# Altium footprint library BLE_THERMISTOR.PcbLib: 24 footprints (part 1 of 2)
Each footprint in its own frame and in the unit in brackets; x right, y up, seen from the top. Pads: shape width x height; smd on the part's side, far side on the other; paste and mask are expansions set on the pad; w line width, h text height; cw(c..) or ccw(c..) is an arc to the next point about the centre after c.
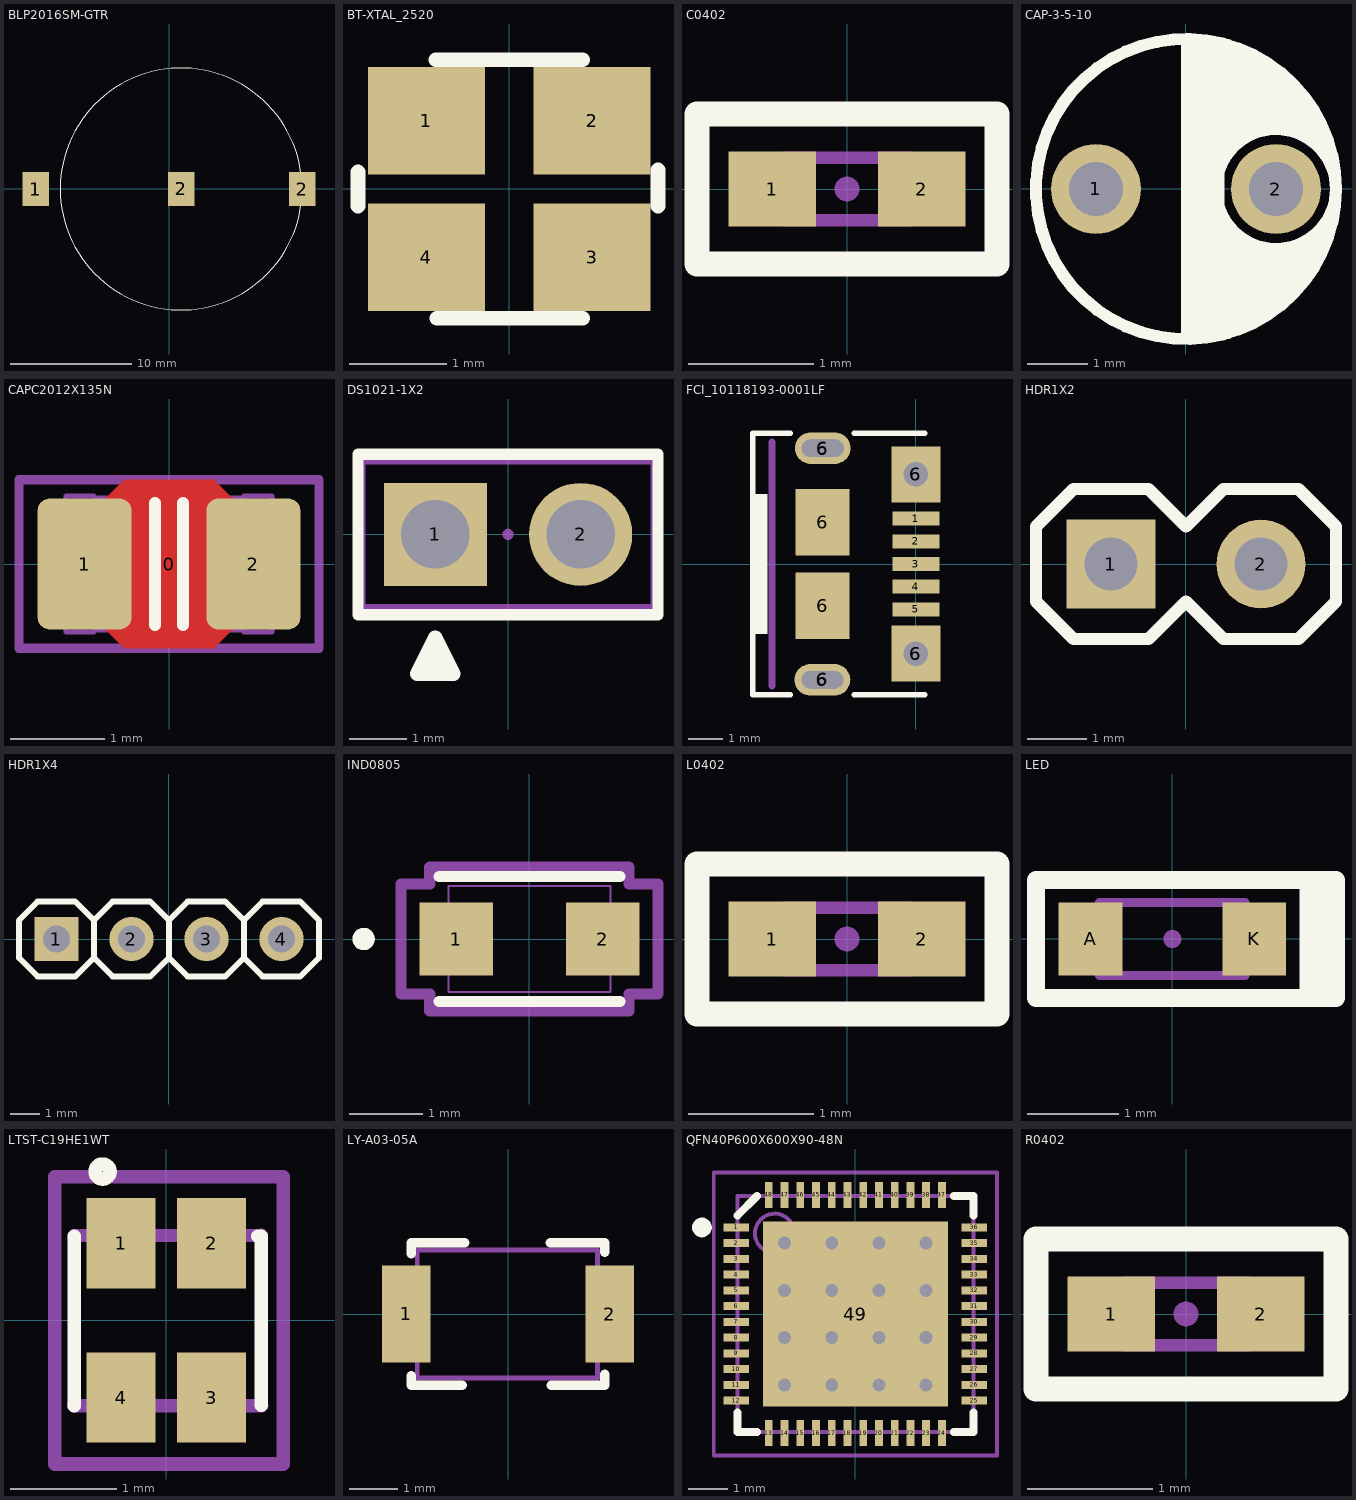
[diagram p0: the footprints below, top view; thin cyan lines are the x and y axes]

## BLP2016SM-GTR [mm]
height 1.2
pads (3):
  rect 2.2x2.8 smd mask+0.05: 1(-11,0) 2(1,0) 2(11,0)
Top Overlay:
  circle w0.1: c1,0 r10

## BT-XTAL_2520 [mm]
pads (4):
  rect 1.2x1.1 smd paste+0 mask+0.05: 1(-0.85,0.7) 2(0.85,0.7) 3(0.85,-0.7) 4(-0.85,-0.7)
Top Overlay:
  lines w0.152: -1.55,-0.175 -1.55,0.175 ; -0.75,1.325 0.75,1.325 ; -0.74,-1.325 0.75,-1.325 ; 1.525,-0.175 1.525,0.195
3D body "User Library-GeyerElectronics_KX6.step": height 0.56, standoff 0, extent -1.25,-1 1.27,1

## C0402 [mm]
pads (3):
  rect 0.7x0.6 smd paste+0 mask+0.05: 1(-0.6,0) 2(0.6,0)
  round 0.2 on Mech4 paste-10 mask-10: ""(0,0)
Top Overlay:
  lines w0.2: -1.2,-0.6 1.2,-0.6 1.2,0.6 -1.2,0.6 -1.2,-0.6
Mechanical 4:
  lines w0.1: -0.5,-0.25 0.5,-0.25 0.5,0.25 -0.5,0.25 -0.5,-0.25
3D body "C1005.STEP": height 0.5, standoff 0, extent -0.5,-0.25 0.5,0.25

## CAP-3-5-10 [mm] "Capacitor; 2 Leads"
height 10
pads (2):
  round 1.5 hole 0.9 paste-10 mask+0.05: 1(-1.5,0) 2(1.5,0)
Top Overlay:
  circle w0.2: c0,0 r2.5
  circle w0.2: c1.5,0 r1
  lines w0.2: 0.02,-2.48 0.02,2.5 ; 0.16,-2.39 0.16,2.46 ; 0.35,-2.35 0.35,2.46 ; 0.54,-2.42 0.54,2.4 ; 0.7,-2.4 0.7,-0.68 ; 0.7,0.68 0.7,2.4 ; 0.84,-2.32 0.84,-0.84 ; 0.84,0.84 0.84,2.32 ; 0.97,-2.23 0.97,-0.98 ; 0.97,0.98 0.97,2.23 ; 1.12,-2.13 1.12,-1.02 ; 1.12,1.02 1.12,2.13 ; 1.27,-2.06 1.27,-1.09 ; 1.27,1.09 1.27,2.06 ; 1.41,-1.97 1.41,-1.04 ; 1.41,1.04 1.41,1.97 ; 1.57,-1.85 1.57,-1.14 ; 1.57,1.14 1.57,1.85 ; 1.74,-1.71 1.74,-1.07 ; 1.74,1.07 1.74,1.71 ; 1.88,-1.49 1.88,-0.98 ; 1.88,0.98 1.88,1.49 ; 2.04,-1.32 2.04,-0.95 ; 2.04,0.95 2.04,1.32 ; 2.18,-1.07 2.18,-0.8 ; 2.18,0.8 2.18,1.07
3D body "8x12.5mm.STEP": height 0.8, standoff -13.5, extent -4,-4 4,4

## CAPC2012X135N [mm] "Chip Capacitor, Body 2.0x1.2mm, EIA 0805, IPC Medium Density"
height 1.35
pads (3):
  round 0.254 on Mech15: 0(0,0)
  rrect25% 1x1.4 smd: 1(-0.9,0) 2(0.9,0)
Top Layer:
  pour cut-out: -0.675,0.7 -0.475,0.9 0.475,0.9 0.675,0.7 0.675,-0.7 0.475,-0.9 -0.475,-0.9 -0.675,-0.7
Top Overlay:
  lines w0.127: -0.15,-0.651 -0.15,0.651 ; 0.15,-0.651 0.15,0.651
Mechanical 13:
  lines w0.05: -0.8,-0.705 0.8,-0.705 ; -0.8,0.705 0.8,0.705 ; -1.1,-0.725 -0.8,-0.725 -0.8,0.725 -1.1,0.725 -1.1,-0.725 ; 0.8,-0.725 0.8,0.725 1.1,0.725 1.1,-0.725 0.8,-0.725
Mechanical 15:
  lines w0.1: -1.6,-0.9 1.6,-0.9 1.6,0.9 -1.6,0.9 -1.6,-0.9
3D body "CAP_0805.STEP": height 1.34, standoff -0.01, extent -1.1,-0.725 1.1,0.725

## DS1021-1X2 [mm]
pads (3):
  rect 1.8x1.8 hole 1.2 paste-10 mask+0.05: 1(-1.27,0)
  round 1.8 hole 1.2 paste-10 mask+0.05: 2(1.27,0)
  round 0.2 on Mech4 paste-10 mask-10: ""(0,0)
Top Overlay:
  lines w0.2: -2.62,-1.4 2.62,-1.4 2.62,1.4 -2.62,1.4 -2.62,-1.4
  lines w0.25: -1.27,-2.435 -1.27,-1.8 ; -1.27,-1.8 -1.587,-2.435 -0.953,-2.435 -1.27,-1.8
Mechanical 4:
  lines w0.1: -2.54,-1.27 -2.54,1.27 2.54,1.27 2.54,-1.27 -2.54,-1.27

## FCI_10118193-0001LF [mm]
pads (15):
  rect 1.35x0.4 smd: 1(0,1.3) 2(0,0.65) 3(0,0) 4(0,-0.65) 5(0,-1.3)
  oval 1.6x0.9 hole 0.5 slot 1.2 at 0 deg: 6(-2.68,-3.32) 6(-2.67,3.32)
  oval 2x1.5 on Top Paste: 6(-2.675,-3.3) 6(-2.675,3.3)
  rect 1.55x1.9 smd: 6(-2.675,-1.2) 6(-2.675,1.2)
  rect 1.4x1.6 smd: 6(0,-2.57) 6(0,2.57)
  round 1 hole 0.7: 6(0,-2.57)
  round 1.2 hole 0.7: 6(0,2.57)
Top Overlay:
  rectangle: -4.75,-2 -4.25,2
  lines w0.152: -3.6,-3.75 -4.675,-3.75 -4.675,3.75 -3.6,3.75 ; -1.775,-3.75 0.25,-3.75 ; -1.775,3.75 0.25,3.75 ; 0.475,-3.12 0.475,-2.645 ; 0.475,2.645 0.475,3.12
Mechanical 15:
  lines w0.2: -4.125,-3.5 -4.125,3.5
3D body "User Library-MicroUSB-B_Molex_105017-0001.step": height 2.72, standoff -0.59, extent -5.28,-4.1 0.15,4.1

## HDR1X2 [mm] "1X13"
pads (2):
  rect 1.5x1.5 hole 0.9: 1(-1.27,0)
  round 1.5 hole 0.9: 2(1.27,0)
Top Overlay:
  lines w0.203: -2.54,-0.635 -1.905,-1.27 -0.635,-1.27 0,-0.635 0.635,-1.27 1.905,-1.27 2.54,-0.635 2.54,0.635 1.905,1.27 0.635,1.27 0,0.635 -0.635,1.27 -1.905,1.27 -2.54,0.635 -2.54,-0.635
Mechanical 4:
  circle w0.1: c1.27,0 r0.32
  circle w0.1: c-1.27,0 r0.32
  lines w0.1: -2.54,-0.635 -2.54,0.635 -1.905,1.27 -0.635,1.27 0,0.635 0.635,1.27 1.905,1.27 2.54,0.635 2.54,-0.635 1.905,-1.27 0.635,-1.27 0,-0.635 -0.635,-1.27 -1.905,-1.27 -2.54,-0.635
3D body: height 8.6, standoff -0.5, extent 0.92,-0.35 1.62,0.35
3D body: height 8.6, standoff -0.5, extent -1.62,-0.35 -0.92,0.35
3D body: height 3, standoff 0, extent -2.54,-1.27 2.54,1.27

## HDR1X4 [mm] "1X13"
pads (4):
  rect 1.5x1.5 hole 0.9: 1(-3.81,0)
  round 1.5 hole 0.9: 2(-1.27,0) 3(1.27,0) 4(3.81,0)
Top Overlay:
  lines w0.203: -2.54,-0.635 -3.175,-1.27 -4.445,-1.27 -5.08,-0.635 -5.08,0.635 -4.445,1.27 -3.175,1.27 -2.54,0.635 ; -2.54,-0.635 -1.905,-1.27 -0.635,-1.27 0,-0.635 ; -2.54,-0.635 -2.54,0.635 ; -2.54,0.635 -1.905,1.27 -0.635,1.27 0,0.635 ; 0,-0.635 0,0.635 ; 0,-0.635 0.635,-1.27 1.905,-1.27 2.54,-0.635 ; 0,0.635 0.635,1.27 1.905,1.27 2.54,0.635 ; 2.54,-0.635 3.175,-1.27 4.445,-1.27 5.08,-0.635 5.08,0.635 4.445,1.27 3.175,1.27 2.54,0.635 ; 2.54,-0.635 2.54,0.635
Mechanical 4:
  circle w0.1: c-3.81,0 r0.32
  circle w0.1: c-1.27,0 r0.32
  circle w0.1: c3.81,0 r0.32
  circle w0.1: c1.27,0 r0.32
  lines w0.1: 0,-0.635 -0.635,-1.27 -1.905,-1.27 -2.54,-0.635 -3.175,-1.27 -4.445,-1.27 -5.08,-0.635 -5.08,0.635 -4.445,1.27 -3.175,1.27 -2.54,0.635 -1.905,1.27 -0.635,1.27 0,0.635 ; 0,-0.635 0,0.635 ; 0,-0.635 0,0.635 ; 0,-0.635 0.635,-1.27 1.905,-1.27 2.54,-0.635 ; 0,0.635 0.635,1.27 1.905,1.27 2.54,0.635 ; 2.54,-0.635 3.175,-1.27 4.445,-1.27 5.08,-0.635 5.08,0.635 4.445,1.27 3.175,1.27 2.54,0.635 ; 2.54,-0.635 2.54,0.635
3D body: height 3, standoff 0, extent -5.08,-1.27 0,1.27
3D body: height 8.6, standoff -0.5, extent -4.16,-0.35 -3.46,0.35
3D body: height 8.6, standoff -0.5, extent -1.62,-0.35 -0.92,0.35
3D body: height 8.6, standoff -0.5, extent 3.46,-0.35 4.16,0.35
3D body: height 8.6, standoff -0.5, extent 0.92,-0.35 1.62,0.35
3D body: height 3, standoff 0, extent 0,-1.27 5.08,1.27

## IND0805 [mil]
pads (2):
  rect 39.5x39 smd paste+0 mask+0: 1(-39.25,0) 2(39.25,0)
Top Overlay:
  circle w6: c-89,0 r3
  lines w6: -48.5,-33.5 48.5,-33.5 ; -48.5,33.5 48.5,33.5
Mechanical 13:
  circle w0: c-40.5,0 r3
  lines w1: -43.5,-28.5 43.5,-28.5 43.5,28.5 -43.5,28.5 -43.5,-28.5
Mechanical 15:
  lines w6: -69,-29.5 -69,29.5 -53.5,29.5 -53.5,38.5 53.5,38.5 53.5,29.5 69,29.5 69,-29.5 53.5,-29.5 53.5,-38.5 -53.5,-38.5 -53.5,-29.5 -69,-29.5
3D body: height 10, standoff 0, extent 0,0 10,10
3D body "IND_BOURNS_CE201210_A.step": height 32.99, standoff 0, extent -43.5,-28.58 43.51,28.59

## L0402 [mm]
pads (3):
  rect 0.7x0.6 smd paste+0 mask+0.05: 1(-0.6,0) 2(0.6,0)
  round 0.2 on Mech4 paste-10 mask-10: ""(0,0)
Top Overlay:
  lines w0.2: -1.2,-0.6 -1.2,0.6 1.2,0.6 1.2,-0.6 -1.2,-0.6
Mechanical 4:
  lines w0.1: -0.5,-0.25 -0.5,0.25 0.5,0.25 0.5,-0.25 -0.5,-0.25
3D body "R1005.STEP": height 0.6, standoff 0, extent -0.5,-0.25 0.5,0.25

## LED [mm]
pads (3):
  rect 0.7x0.8 smd paste+0 mask+0.05: A(-0.9,0) K(0.9,0)
  round 0.2 on Mech4 paste-10 mask-10: ""(0,0)
Top Overlay:
  rectangle: 1.5,-0.65 1.8,0.65
  lines w0.2: 1.5,-0.65 1.5,0.65 ; -1.5,-0.65 -1.5,0.65 1.8,0.65 1.8,-0.65 -1.5,-0.65
Mechanical 4:
  lines w0.1: -0.8,-0.4 -0.8,0.4 0.8,0.4 0.8,-0.4 -0.8,-0.4
3D body: height 0.5, standoff 0, extent -0.8,-0.4 0.8,0.4

## LTST-C19HE1WT [mm]
pads (4):
  rect 0.65x0.85 smd paste-25.4 mask-25.4: 1(-0.425,0.725) 2(0.425,0.725) 3(0.425,-0.725) 4(-0.425,-0.725)
Top Overlay:
  circle w0.127: c-0.6,1.4 r0.071
  lines w0.127: -0.867,-0.803 -0.867,0.793 ; 0.861,0.793 0.894,0.793 0.894,-0.799
Top Paste:
  region: 0.1,-1.15 0.75,-1.15 0.75,-0.3 0.1,-0.3
  region: -0.75,-1.15 -0.1,-1.15 -0.1,-0.3 -0.75,-0.3
  region: 0.1,0.3 0.75,0.3 0.75,1.15 0.1,1.15
  region: -0.75,0.3 -0.1,0.3 -0.1,1.15 -0.75,1.15
Top Solder:
  region: 0,-1.25 0.85,-1.25 0.85,-0.2 0,-0.2
  region: -0.85,-1.25 0,-1.25 0,-0.2 -0.85,-0.2
  region: 0,0.2 0.85,0.2 0.85,1.25 0,1.25
  region: -0.85,0.2 0,0.2 0,1.25 -0.85,1.25
Mechanical 1:
  lines w0.127: -0.871,-0.804 0.897,-0.8 ; -0.864,0.794 0.893,0.8 ; -1.05,-1.35 -1.05,1.35 1.1,1.35 1.1,-1.35 -1.05,-1.35
3D body "Tri-Color led.STEP": height 0.35, standoff 0, extent -0.78,-0.78 0.82,0.82

## LY-A03-05A [mm]
height 9.6
pads (2):
  rect 1x2 smd paste+0 mask+0.05: 1(-2.1,0) 2(2.1,0)
Top Overlay:
  lines w0.2: -2,-1.275 -2,-1.475 -0.95,-1.475 ; -2,1.25 -2,1.475 -0.9,1.475 ; 0.875,1.475 2,1.475 2,1.275 ; 0.9,-1.475 2,-1.475 2,-1.25
Mechanical 4:
  lines w0.1: -1.875,-1.325 1.85,-1.325 1.85,1.325 -1.875,1.325 -1.875,-1.325
3D body: height 2, standoff 0, extent -1.825,-1.275 1.775,1.275

## QFN40P600X600X90-48N [mm]
pads (49):
  rect 0.65x0.2 smd paste+0 mask+0.05: 1(-3.025,2.2) 2(-3.025,1.8) 3(-3.025,1.4) 4(-3.025,1) 5(-3.025,0.6) 6(-3.025,0.2) 7(-3.025,-0.2) 8(-3.025,-0.6) 9(-3.025,-1) 10(-3.025,-1.4) 11(-3.025,-1.8) 12(-3.025,-2.2) 25(3.025,-2.2) 26(3.025,-1.8) 27(3.025,-1.4) 28(3.025,-1) 29(3.025,-0.6) 30(3.025,-0.2) 31(3.025,0.2) 32(3.025,0.6) 33(3.025,1) 34(3.025,1.4) 35(3.025,1.8) 36(3.025,2.2)
  rect 0.2x0.65 smd paste+0 mask+0.05: 13(-2.2,-3.025) 14(-1.8,-3.025) 15(-1.4,-3.025) 16(-1,-3.025) 17(-0.6,-3.025) 18(-0.2,-3.025) 19(0.2,-3.025) 20(0.6,-3.025) 21(1,-3.025) 22(1.4,-3.025) 23(1.8,-3.025) 24(2.2,-3.025) 37(2.2,3.025) 38(1.8,3.025) 39(1.4,3.025) 40(1,3.025) 41(0.6,3.025) 42(0.2,3.025) 43(-0.2,3.025) 44(-0.6,3.025) 45(-1,3.025) 46(-1.4,3.025) 47(-1.8,3.025) 48(-2.2,3.025)
  rect 4.7x4.7 smd mask+0.05: 49(0,0)
via 1.8,0.6 diameter 0.66 hole 0.33
via 1.8,1.8 diameter 0.66 hole 0.33
via 0.6,1.8 diameter 0.66 hole 0.33
via 0.6,0.6 diameter 0.66 hole 0.33
via 1.8,-1.8 diameter 0.66 hole 0.33
via 1.8,-0.6 diameter 0.66 hole 0.33
via 0.6,-0.6 diameter 0.66 hole 0.33
via 0.6,-1.8 diameter 0.66 hole 0.33
via -0.6,1.8 diameter 0.66 hole 0.33
via -1.8,1.8 diameter 0.66 hole 0.33
via -0.6,0.6 diameter 0.66 hole 0.33
via -1.8,0.6 diameter 0.66 hole 0.33
via -0.6,-1.8 diameter 0.66 hole 0.33
via -0.6,-0.6 diameter 0.66 hole 0.33
via -1.8,-1.8 diameter 0.66 hole 0.33
via -1.8,-0.6 diameter 0.66 hole 0.33
Top Overlay:
  circle w0.25: c-3.9,2.2 r0.125
  lines w0.2: -3,-2.5 -3,-3 -2.5,-3 ; -3,2.5 -2.5,3 ; 2.5,-3 3,-3 3,-2.5 ; 2.5,3 3,3 3,2.5
Mechanical 13:
  circle w0.1: c-2.05,2.05 r0.5
  lines w0.1: -3,-3 3,-3 3,3 -3,3 -3,-3
Mechanical 15:
  lines w0.1: -0.5,0 0.5,0 ; 0,-0.5 0,0.5 ; -3.6,-3.6 3.6,-3.6 3.6,3.6 -3.6,3.6 -3.6,-3.6
3D body: height 0.9, standoff 0, extent -3,-3 3,3

## R0402 [mm]
height 6.35
pads (3):
  rect 0.7x0.6 smd paste+0 mask+0.05: 1(-0.6,0) 2(0.6,0)
  round 0.2 on Mech4 paste-10 mask-10: ""(0,0)
Top Overlay:
  lines w0.2: -1.2,-0.6 1.2,-0.6 1.2,0.6 -1.2,0.6 -1.2,-0.6
Mechanical 4:
  lines w0.1: -0.5,-0.25 0.5,-0.25 0.5,0.25 -0.5,0.25 -0.5,-0.25
3D body "R1005.STEP": height 0.6, standoff 0, extent -0.5,-0.25 0.5,0.25